# EAGLE library part DS18030-010+ (library DigiKey)
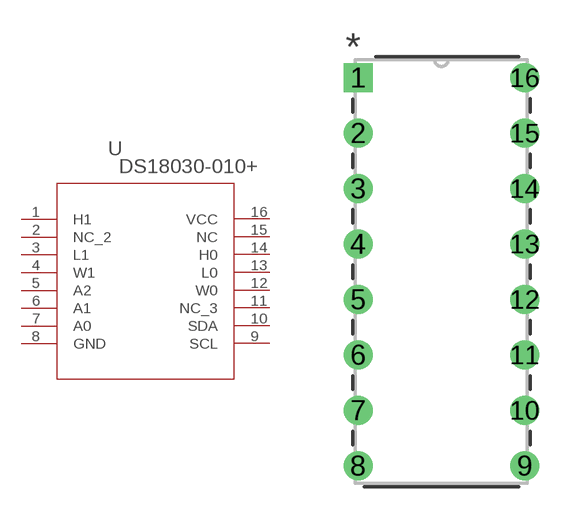
[diagram p3: symbol with the pads of 21-0043D_16; footprint 21-0043D_16]

Designator prefix U

## DS18030-010+ (MANUFACTURER_PART_NUMBER: DS18030010+; VENDOR: Maxim Integrated Products)  [21-0043D_16]
1  H1  pas
2  NC_2  nc
3  L1  pas
4  W1  pas
5  A2  in
6  A1  in
7  A0  in
8  GND  pwr
9  SCL  in
10  SDA
11  NC_3  nc
12  W0  pas
13  L0  pas
14  H0  pas
15  NC  nc
16  VCC  pwr

## Footprint 21-0043D_16 (pad centres in mm)
drill 0.813 pad 1.321 square: 1 -7.62,17.78
drill 0.813 pad 1.321: 2 -7.62,15.24; 3 -7.62,12.7; 4 -7.62,10.16; 5 -7.62,7.62; 6 -7.62,5.08; 7 -7.62,2.54; 8 -7.62,0; 9 0,0; 10 0,2.54; 11 0,5.08; 12 0,7.62; 13 0,10.16; 14 0,12.7; 15 0,15.24; 16 0,17.78